# EAGLE library part MICROMATCH-8 (library tyco)
MicroMaTch 8
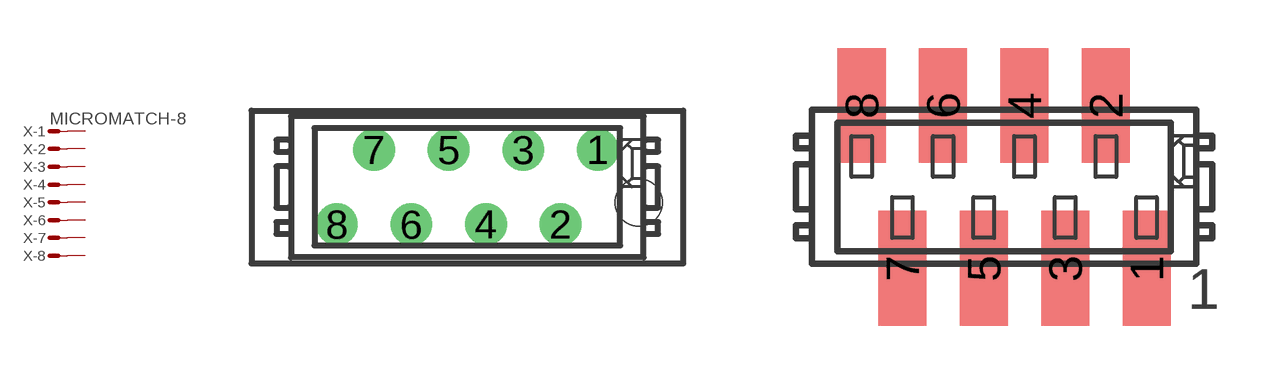
[diagram p1: symbol with the pads of MICROMATCH-8; footprints MICROMATCH-8, MICROMATCH-8-SMD]

Designator prefix X; gates -1=MV -2=M -3=M -4=M -5=M -6=M -7=M -8=M

## MICROMATCH-8  [MICROMATCH-8]
1  -1:S  pas
2  -2:S  pas
3  -3:S  pas
4  -4:S  pas
5  -5:S  pas
6  -6:S  pas
7  -7:S  pas
8  -8:S  pas

## MICROMATCH-8-SMD  [MICROMATCH-8-SMD]
Pads as for MICROMATCH-8

## MICROMATCH-8-SIDE  [MICROMATCH-8-SIDE]
Pads as for MICROMATCH-8

## Footprint MICROMATCH-8 (pad centres in mm)
MicroMaTch 8 7-215464-8 / 0-215464-8
drill 0.813 pad 1.422: 1 4.445,1.27; 2 3.175,-1.27; 3 1.905,1.27; 4 0.635,-1.27; 5 -0.635,1.27; 6 -1.905,-1.27; 7 -3.175,1.27; 8 -4.445,-1.27
hole 1.6 at 5.845,-0.53

## Footprint MICROMATCH-8-SMD (pad centres in mm)
MicroMaTch 8 SMD 7-188275-8 / 0-188275-8
smd 1.5 x 3.58: 1 4.445,-2.54; 2 3.175,2.54; 3 1.905,-2.54; 4 0.635,2.54; 5 -0.635,-2.54; 6 -1.905,2.54; 7 -3.175,-2.54; 8 -4.445,2.54

## Footprint MICROMATCH-8-SIDE (pad centres in mm)
MicroMaTch 8 Side Entry 7-215460-8 / 0-215460-8
drill 0.813: 1 4.445,1.27; 2 3.175,-1.27; 3 1.905,1.27; 4 0.635,-1.27; 5 -0.635,1.27; 6 -1.905,-1.27; 7 -3.175,1.27; 8 -4.445,-1.27